# Altium footprint library 集成块.PcbLib: 98 footprints (part 4 of 7)
Each footprint in its own frame and in the unit in brackets; x right, y up, seen from the top. Pads: shape width x height; smd on the part's side, far side on the other; paste and mask are expansions set on the pad; w line width, h text height; cw(c..) or ccw(c..) is an arc to the next point about the centre after c.
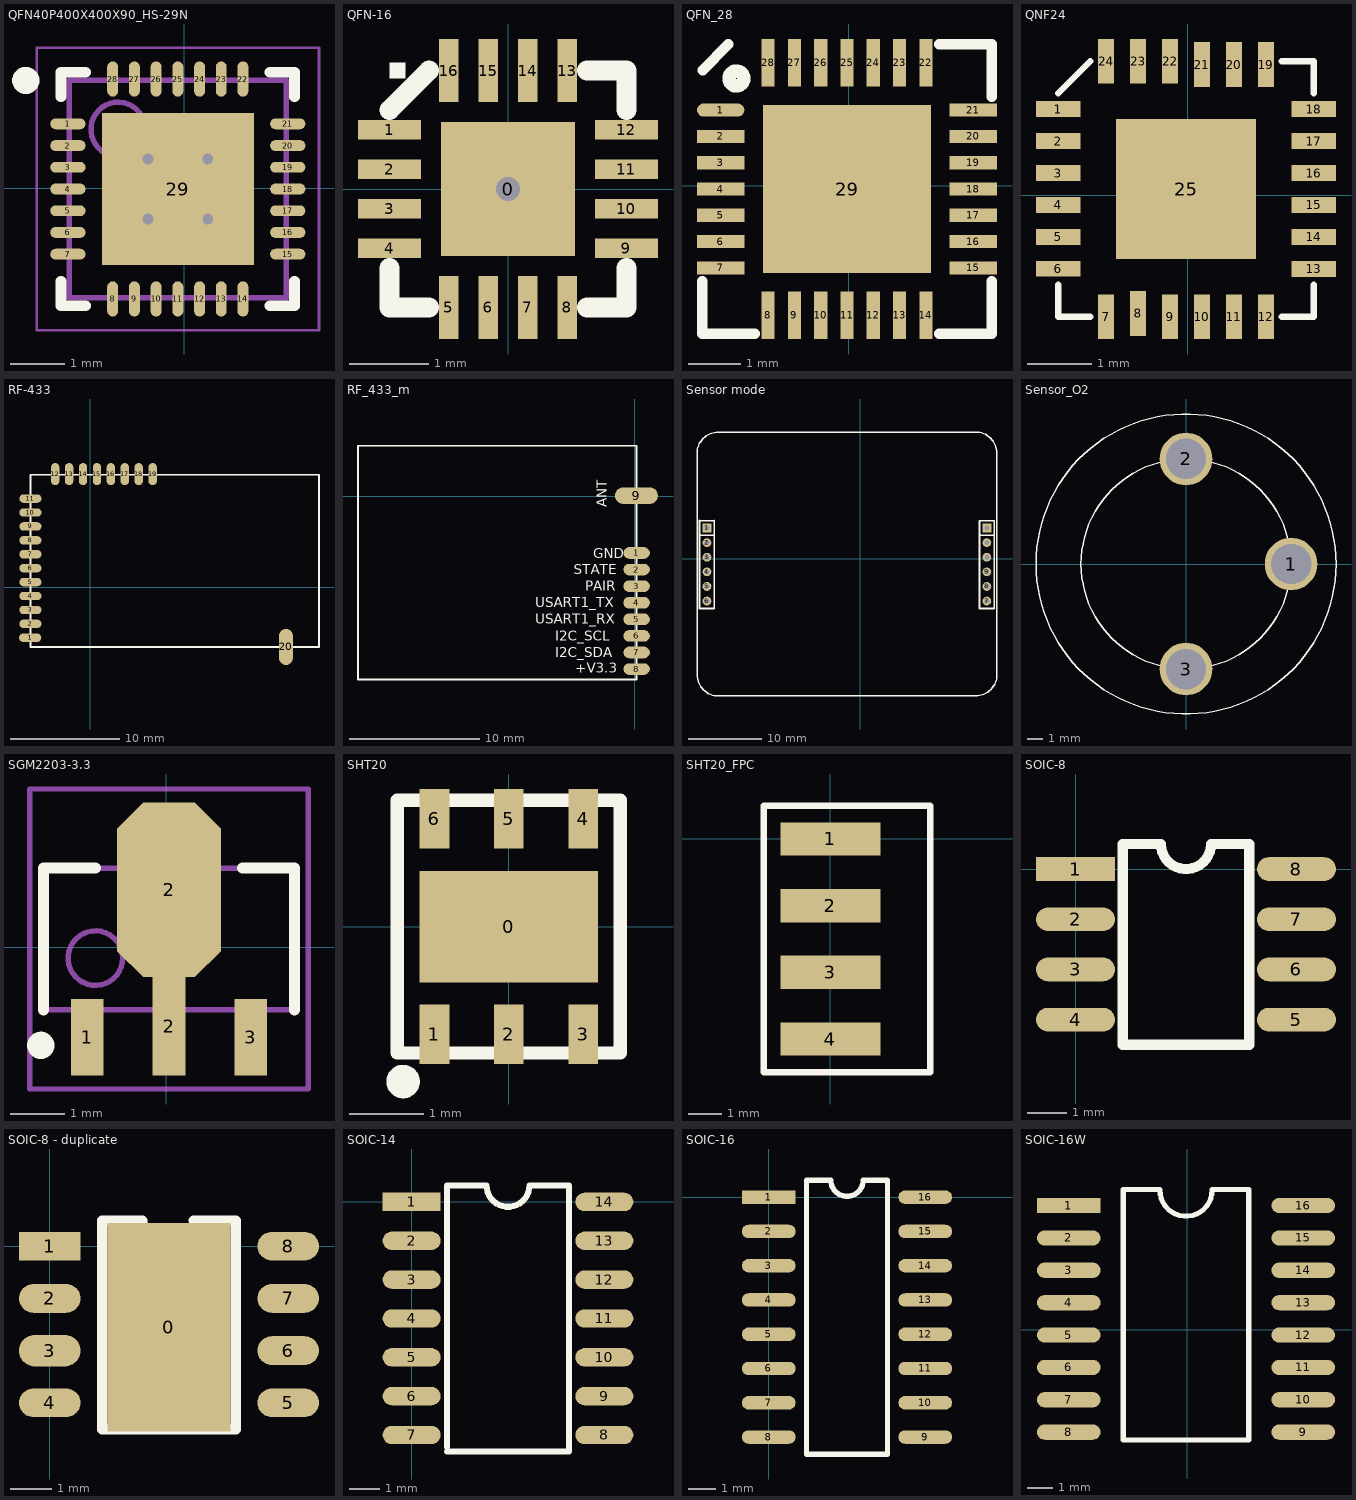
[diagram p3: the footprints below, top view; thin cyan lines are the x and y axes]

## QFN40P400X400X90_HS-29N [mm]
pads (29):
  oval 0.65x0.2 smd: 1(-2.142,1.182) 2(-2.142,0.782) 3(-2.142,0.382) 4(-2.142,-0.018) 5(-2.142,-0.418) 6(-2.142,-0.818) 7(-2.142,-1.218) 15(1.908,-1.218) 16(1.908,-0.818) 17(1.908,-0.418) 18(1.908,-0.018) 19(1.908,0.382) 20(1.908,0.782) 21(1.908,1.182)
  oval 0.2x0.65 smd: 8(-1.317,-2.043) 9(-0.917,-2.043) 10(-0.517,-2.043) 11(-0.117,-2.043) 12(0.283,-2.043) 13(0.683,-2.043) 14(1.083,-2.043) 22(1.083,2.007) 23(0.683,2.007) 24(0.283,2.007) 25(-0.117,2.007) 26(-0.517,2.007) 27(-0.917,2.007) 28(-1.317,2.007)
  rect 2.8x2.8 smd: 29(-0.117,-0.018)
via 0.433,-0.568 diameter 0.5 hole 0.2
via -0.667,-0.568 diameter 0.5 hole 0.2
via 0.433,0.532 diameter 0.5 hole 0.2
via -0.667,0.532 diameter 0.5 hole 0.2
Top Overlay:
  circle w0.25: c-2.917,1.982 r0.125
  lines w0.2: -2.267,-1.718 -2.267,-2.168 -1.817,-2.168 ; -2.267,1.682 -2.267,2.132 -1.817,2.132 ; 1.583,-2.168 2.033,-2.168 2.033,-1.718 ; 1.583,2.132 2.033,2.132 2.033,1.682
Mechanical 13:
  circle w0.1: c-1.217,1.082 r0.5
  lines w0.1: -2.117,-2.018 1.883,-2.018 1.883,1.982 -2.117,1.982 -2.117,-2.018
Mechanical 15:
  lines w0.05: -2.717,-2.618 2.483,-2.618 2.483,2.582 -2.717,2.582 -2.717,-2.618
  lines w0.1: -0.617,-0.018 0.383,-0.018 ; -0.117,-0.518 -0.117,0.482
3D body: height 0.9, standoff 0.05, extent -2.117,-2.018 1.883,1.982

## QFN-16 [mm]
pads (17):
  rect 1.7x1.7 smd: 0(0,0)
  rect 0.8x0.25 smd: 1(-1.5,0.75) 2(-1.5,0.25) 3(-1.5,-0.25) 4(-1.5,-0.75) 9(1.5,-0.75) 10(1.5,-0.25) 11(1.5,0.25) 12(1.5,0.75)
  rect 0.25x0.8 smd: 5(-0.75,-1.5) 6(-0.25,-1.5) 7(0.25,-1.5) 8(0.75,-1.5) 13(0.75,1.5) 14(0.25,1.5) 15(-0.25,1.5) 16(-0.75,1.5)
via 0,0 diameter 0.406 hole 0.3
Top Overlay:
  region: -1.5,1.6 -1.5,1.4 -1.3,1.4 -1.3,1.6
  lines w0.254: -1.5,-1 -1.5,-1.5 -1,-1.5 ; -1.5,1 -1,1.5 ; 1,-1.5 1.5,-1.5 1.5,-1 ; 1,1.5 1.5,1.5 1.5,1

## QFN_28 [mm]
pads (29):
  oval 0.9x0.25 smd: 1(-2.435,1.436)
  rect 0.9x0.25 smd: 2(-2.435,0.936) 3(-2.435,0.436) 4(-2.435,-0.064) 5(-2.435,-0.564) 6(-2.435,-1.064) 7(-2.435,-1.564) 15(2.365,-1.564) 16(2.365,-1.064) 17(2.365,-0.564) 18(2.365,-0.064) 19(2.365,0.436) 20(2.365,0.936) 21(2.365,1.436)
  rect 0.25x0.9 smd: 8(-1.535,-2.464) 9(-1.035,-2.464) 10(-0.535,-2.464) 11(-0.035,-2.464) 12(0.465,-2.464) 13(0.965,-2.464) 14(1.465,-2.464) 22(1.465,2.336) 23(0.965,2.336) 24(0.465,2.336) 25(-0.035,2.336) 26(-0.535,2.336) 27(-1.035,2.336) 28(-1.535,2.336)
  rect 3.2x3.2 smd: 29(-0.035,-0.064)
Top Overlay:
  circle w0.254: c-2.135,2.036 r0.141
  lines w0.2: -2.785,-1.814 -2.785,-2.814 -1.785,-2.814 ; -2.775,2.196 -2.288,2.683 ; 1.715,-2.814 2.715,-2.814 2.715,-1.814 ; 1.715,2.686 2.715,2.686 2.715,1.686

## QNF24 [mm]
pads (25):
  rect 0.7x0.25 smd: 1(-2.025,1.352) 2(-2.025,0.852) 3(-2.025,0.352) 4(-2.025,-0.148) 5(-2.025,-0.648) 6(-2.025,-1.148) 13(1.975,-1.148) 14(1.975,-0.648) 15(1.975,-0.148) 16(1.975,0.352) 17(1.975,0.852) 18(1.975,1.352)
  rect 0.25x0.7 smd: 7(-1.275,-1.898) 8(-0.775,-1.848) 9(-0.275,-1.898) 10(0.225,-1.898) 11(0.725,-1.898) 12(1.225,-1.898) 19(1.225,2.052) 20(0.725,2.052) 21(0.225,2.052) 22(-0.275,2.102) 23(-0.775,2.102) 24(-1.275,2.102)
  rect 2.2x2.2 smd: 25(-0.025,0.102)
Top Overlay:
  lines w0.1: -2.025,-1.398 -2.025,-1.898 -1.525,-1.898 ; -2.025,1.602 -1.525,2.102 ; 1.475,-1.898 1.975,-1.898 1.975,-1.398 ; 1.475,2.102 1.975,2.102 1.975,1.602

## RF-433 [mil]
pads (20):
  oval 80x30 smd: 1(-215.24,-181.82) 2(-214.24,-131.82) 3(-214.24,-81.82) 4(-214.24,-31.82) 5(-214.24,18.18) 6(-214.24,68.18) 7(-214.24,118.18) 8(-214.24,168.18) 9(-214.24,218.18) 10(-214.24,268.18) 11(-214.24,318.18)
  oval 30x80 smd: 12(-125.24,406.18) 13(-75.24,406.18) 14(-25.24,406.18) 15(24.76,406.18) 16(74.76,406.18) 17(124.76,406.18) 18(174.76,406.18) 19(224.76,406.18)
  oval 50x130 smd: 20(703.76,-214.82)
Top Overlay:
  lines w6.3: -213.84,-214.82 -213.84,404.18 822.46,404.18 822.46,-214.82 -213.59,-214.82 -213.84,-214.57

## RF_433_m [mil]
pads (9):
  oval 80x35 smd: 1(5.13,-170.42) 2(5.13,-220.42) 3(5.13,-270.42) 4(5.13,-320.42) 5(5.13,-370.42) 6(5.13,-420.42) 7(5.13,-470.42) 8(5.13,-520.42)
  oval 130x50 smd: 9(4.63,2.58)
Top Overlay:
  lines w5: -834.87,-551.92 -834.87,153.08 4.63,153.08 4.63,0.58 4.63,-551.92 -834.87,-551.92
  text "ANT" at -84.87,-31.92 h30
  text "+V3.3" at -179.91,-531.92 h30
  text "I2C_SDA" at -239.87,-484.92 h30
  text "I2C_SCL" at -239.87,-434.92 h30
  text "USART1_RX" at -299.87,-383.92 h30
  text "USART1_TX" at -299.87,-333.92 h30
  text "PAIR" at -149.87,-284.92 h30
  text "STATE" at -184.87,-234.92 h30
  text "GND" at -124.87,-185.92 h30

## Sensor mode [mm]
pads (12):
  rect 1.2x1.2 hole 0.7: 1(-20.99,4.242) 12(17.313,4.242)
  round 1.2 hole 0.7: 2(-20.99,2.242) 3(-20.99,0.242) 4(-20.99,-1.758) 5(-20.99,-3.758) 6(-20.99,-5.758) 7(17.313,-5.758) 8(17.313,-3.758) 9(17.313,-1.758) 10(17.313,0.242) 11(17.313,2.242)
Top Overlay:
  lines w0.2: -22.354,14.427 cw(c-19.456,14.453) -19.456,17.352 ; -22.33,-15.85 ccw(c-19.432,-15.849) -19.406,-18.747 ; -22.327,-15.926 -22.327,14.653 ; -19.612,17.374 16.156,17.374 ; -19.507,-18.745 15.799,-18.745 ; 15.748,17.375 cw(c15.774,14.477) 18.672,14.478 ; 15.799,-18.723 ccw(c15.798,-15.825) 18.696,-15.799 ; 18.671,-15.873 18.671,14.859
  lines w0.25: -21.99,5.242 -19.99,5.242 ; 16.313,5.242 18.313,5.242
  lines w0.254: -21.99,3.242 -19.99,3.242 -19.99,5.242 -19.99,-6.758 -21.99,-6.758 -21.99,5.242 ; 16.313,3.242 18.313,3.242 18.313,5.242 18.313,-6.758 16.313,-6.758 16.313,5.242

## Sensor_O2 [mm]
pads (3):
  round 3.5 hole 2.7: 1(7,0) 2(0,7) 3(0,-7)
Top Overlay:
  circle w0.1: c0,0 r7
  circle w0.1: c0,0 r10

## SGM2203-3.3 [mm]
pads (4):
  rect 0.6x1.4 smd: 1(-1.449,-1.648) 3(1.551,-1.648)
  rect 0.6x1.8 smd: 2(0.051,-1.448)
  oct 1.9x3.2 smd: 2(0.051,1.052)
Top Overlay:
  circle w0.25: c-2.299,-1.798 r0.125
  lines w0.2: -2.249,-1.148 -2.249,1.452 -1.299,1.452 ; 1.401,1.452 2.351,1.452 2.351,-1.148
Mechanical 13:
  circle w0.1: c-1.299,-0.198 r0.5
  lines w0.1: -2.249,-1.148 2.351,-1.148 2.351,1.452 -2.249,1.452 -2.249,-1.148
Mechanical 15:
  lines w0.1: -0.449,0.152 0.551,0.152 ; 0.051,-0.348 0.051,0.652 ; -2.499,-2.598 2.601,-2.598 2.601,2.902 -2.499,2.902 -2.499,-2.598
3D body: height 1.6, standoff 0, extent -2.249,-1.148 2.351,1.452

## SHT20 [mm]
pads (7):
  rect 2.4x1.5 smd: 0(0,0)
  rect 0.4x0.8 smd: 1(-1,-1.45) 2(0,-1.45) 3(1,-1.45) 4(1,1.45) 5(0,1.45) 6(-1,1.45)
Top Overlay:
  circle w0.25: c-1.421,-2.083 r0.1
  lines w0.178: -1.5,-1.7 -1.5,1.7 1.5,1.7 1.5,-1.7 -1.5,-1.7

## SHT20_FPC [mm]
pads (4):
  rect 3x1 smd: 1(0,0) 2(0,-2) 3(0,-4) 4(0,-6)
Top Overlay:
  lines w0.2: -2,-7 -2,1 3,1 3,-7 -2,-7

## SOIC-8 [mm]
pads (8):
  rect 2x0.6 smd: 1(0,0)
  oval 2x0.6 smd: 2(0,-1.27) 3(0,-2.54) 4(0,-3.81) 5(5.588,-3.81) 6(5.588,-2.54) 7(5.588,-1.27) 8(5.588,0)
Top Overlay:
  lines w0.254: 1.194,-4.445 1.194,0.635 2.159,0.635 ccw(c2.794,0.635) 3.429,0.635 4.394,0.635 4.394,-4.445 1.194,-4.445

## SOIC-8 - duplicate [mm]
pads (9):
  rect 3x5.07 smd: 0(2.9,-1.975)
  rect 1.5x0.7 smd: 1(0,0)
  oval 1.5x0.7 smd: 2(0,-1.27) 4(0,-3.81) 5(5.8,-3.81) 6(5.8,-2.54) 7(5.8,-1.27) 8(5.8,0)
  oval 1.5x0.77 smd: 3(0,-2.54)
Top Overlay:
  lines w0.254: 1.275,-4.455 1.275,0.625 ; 1.285,0.625 2.25,0.625 ccw(c2.885,0.625) 3.52,0.625 ; 1.3,-4.45 4.531,-4.45 ; 3.5,0.625 4.496,0.625 ; 4.525,-4.455 4.525,0.625

## SOIC-14 [mm]
pads (14):
  rect 1.9x0.6 smd: 1(0,0)
  oval 1.9x0.6 smd: 2(0,-1.27) 3(0,-2.54) 4(0,-3.81) 5(0,-5.08) 6(0,-6.35) 7(0,-7.62) 8(6.3,-7.62) 9(6.3,-6.35) 10(6.3,-5.08) 11(6.3,-3.81) 12(6.3,-2.54) 13(6.3,-1.27) 14(6.3,0)
Top Overlay:
  lines w0.2: 1.15,-8.16 5.15,-8.16 5.15,0.54 3.85,0.54 cw(c3.15,0.54) 2.45,0.54 1.15,0.54 1.15,-8.01

## SOIC-16 [mm]
pads (16):
  rect 2x0.5 smd: 1(0,0)
  oval 2x0.5 smd: 2(0,-1.27) 3(0,-2.54) 4(0,-3.81) 5(0,-5.08) 6(0,-6.35) 7(0,-7.62) 8(0,-8.89) 9(5.8,-8.89) 10(5.8,-7.62) 11(5.8,-6.35) 12(5.8,-5.08) 13(5.8,-3.81) 14(5.8,-2.54) 15(5.8,-1.27) 16(5.8,0)
Top Overlay:
  lines w0.2: 1.4,-9.525 4.4,-9.525 4.4,0.635 3.5,0.635 cw(c2.9,0.63) 2.3,0.635 1.4,0.635 1.4,-9.525

## SOIC-16W [mm]
pads (16):
  rect 2.5x0.6 smd: 1(-4.648,4.877)
  oval 2.5x0.6 smd: 2(-4.648,3.607) 3(-4.648,2.337) 4(-4.648,1.067) 5(-4.648,-0.203) 6(-4.648,-1.473) 7(-4.648,-2.743) 8(-4.648,-4.013) 9(4.552,-4.013) 10(4.552,-2.743) 11(4.552,-1.473) 12(4.552,-0.203) 13(4.552,1.067) 14(4.552,2.337) 15(4.552,3.607) 16(4.552,4.877)
Top Overlay:
  lines w0.2: -1.073,5.482 ccw(c-0.048,5.482) 0.977,5.482 0.977,5.512 2.413,5.512 2.413,-4.318 -2.509,-4.318 -2.509,5.512 -1.073,5.512 -1.073,5.507